# Altium footprint library PcbLib1.PcbLib: 58 footprints (part 1 of 4)
Each footprint in its own frame and in the unit in brackets; x right, y up, seen from the top. Pads: shape width x height; smd on the part's side, far side on the other; paste and mask are expansions set on the pad; w line width, h text height; cw(c..) or ccw(c..) is an arc to the next point about the centre after c.
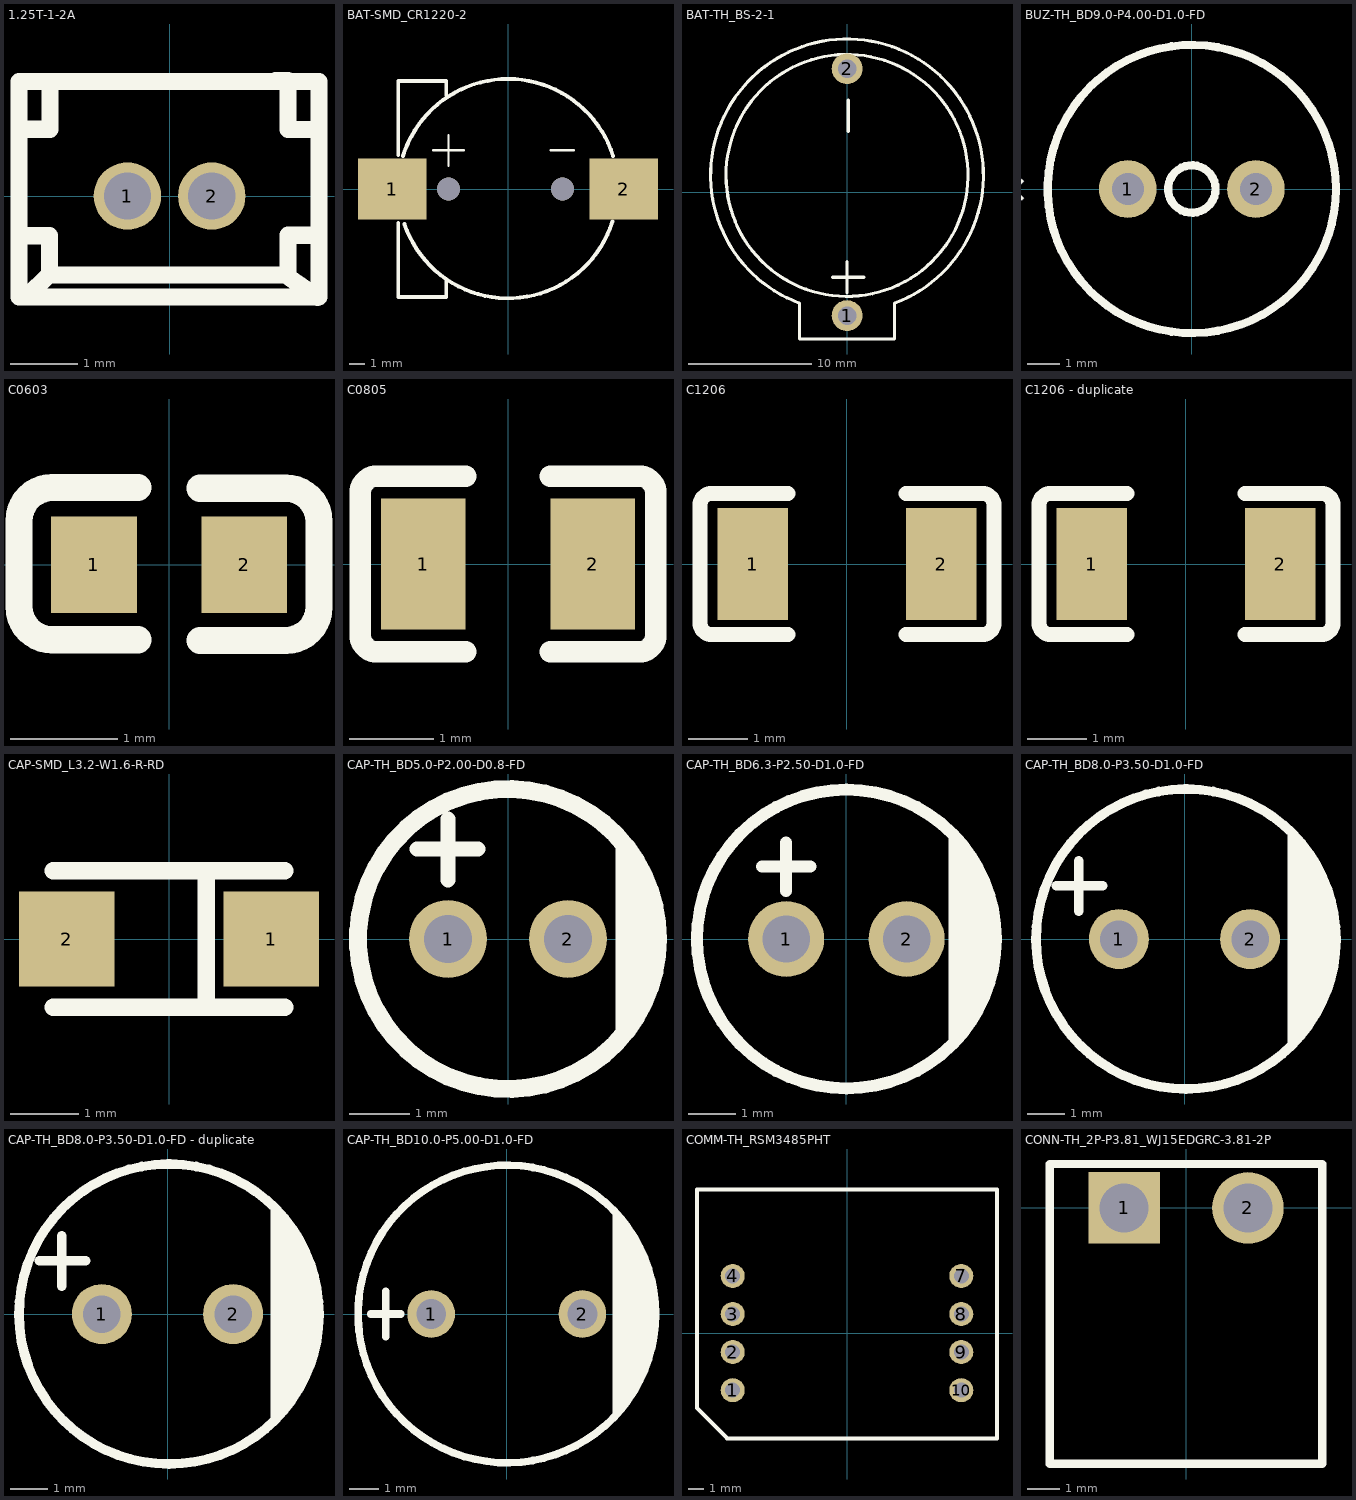
[diagram p0: the footprints below, top view; thin cyan lines are the x and y axes]

## 1.25T-1-2A [mm]
pads (2):
  round 1 hole 0.7: 1(-0.625,0) 2(0.625,0)
Top Overlay:
  lines w0.254: -2.223,-1.48 -2.103,-1.48 -1.793,-1.17 1.715,-1.17 2.195,-1.5 ; -2.223,-0.59 -1.783,-0.59 -1.783,-1.17 ; -2.223,0.99 -1.773,0.99 -1.773,1.7 -1.643,1.7 ; 1.575,1.708 1.755,1.708 1.755,0.988 2.175,0.988 ; 1.756,-1.161 1.756,-0.581 2.196,-0.581 ; -2.233,-1.5 2.215,-1.5 2.215,1.7 -2.233,1.7 -2.233,-1.5

## BAT-SMD_CR1220-2 [mm]
pads (4):
  rect 4.5x4 smd: 1(-7.62,0) 2(7.62,0)
  round 1.5 hole 1.5 unplated: ""(-3.912,0) ""(3.581,0)
Top Overlay:
  lines w0.152: -4.928,2.54 -2.896,2.54 ; -3.912,1.524 -3.912,3.556 ; 2.819,2.54 4.343,2.54
  lines w0.254: -7.22,-2.231 -7.22,-7.112 -4.064,-7.112 -4.064,-5.912 ; -7.22,2.231 -7.22,7.112 -4.064,7.112 -4.064,6.171 ; -6.911,2.175 cw(c0,0) 6.918,2.154 ; -6.815,-2.297 ccw(c0,0) 6.871,-2.124

## BAT-TH_BS-2-1 [mm]
pads (2):
  round 2.5 hole 1.5: 1(0,-10) 2(0,10)
Top Overlay:
  lines w0.254: -3.85,-9.1 -3.85,-11.9 3.85,-11.9 3.85,-9 ccw(c-0.005,1.356) -3.84,-9.007 ; -1.17,-6.9 1.37,-6.9 ; 0,-8.17 0,-5.63 ; 0.1,4.9 0.1,7.44 ; 4.112,-7.541 cw(c-0.005,1.356) 4.2,-7.5

## BUZ-TH_BD9.0-P4.00-D1.0-FD [mm]
pads (2):
  round 1.8 hole 1: 1(-2,0) 2(2,0)
Top Overlay:
  circle w0.254: c0,0 r4.5
  circle w0.254: c0,0 r0.741
  text "+" at -4.865,-0.136 h1

## C0603 [mm]
pads (2):
  rect 0.8x0.9 smd: 1(-0.7,0) 2(0.7,0)
Top Overlay:
  lines w0.254: -0.289,-0.698 -1.089,-0.698 cw(c-1.089,-0.388) -1.399,-0.388 -1.398,0.412 cw(c-1.089,0.412) -1.089,0.722 -0.289,0.722 ; 0.287,-0.704 1.087,-0.704 ccw(c1.087,-0.394) 1.397,-0.394 1.397,0.406 ccw(c1.087,0.406) 1.087,0.716 0.287,0.716

## C0805 [mm]
pads (2):
  rect 1x1.55 smd: 1(-1,0) 2(1,0)
Top Overlay:
  lines w0.254: -1.75,0.82 -1.75,0.8 ; -0.5,-1.04 -1.55,-1.04 cw(c-1.55,-0.84) -1.75,-0.84 -1.75,-0.8 -1.75,0.8 ; -0.5,1.04 -1.55,1.04 ccw(c-1.55,0.84) -1.75,0.84 -1.75,0.8 ; 0.5,-1.04 1.55,-1.04 ccw(c1.55,-0.84) 1.75,-0.84 1.75,-0.8 1.75,0.8 1.75,0.84 ccw(c1.55,0.84) 1.55,1.04 0.5,1.04

## C1206 [mm]
pads (2):
  rect 1.2x1.9 smd: 1(-1.6,0) 2(1.6,0)
Top Overlay:
  lines w0.254: -1,-1.2 -2.2,-1.2 -2.3,-1.2 cw(c-2.3,-1) -2.5,-1 -2.5,1 cw(c-2.3,1) -2.3,1.2 -2.2,1.2 -1,1.2 ; 1,-1.2 2.2,-1.2 2.3,-1.2 ccw(c2.3,-1) 2.5,-1 2.5,1 ccw(c2.3,1) 2.3,1.2 2.2,1.2 1,1.2

## C1206 - duplicate [mm]
pads (2):
  rect 1.2x1.9 smd: 1(-1.6,0) 2(1.6,0)
Top Overlay:
  lines w0.254: -1,-1.2 -2.2,-1.2 -2.3,-1.2 cw(c-2.3,-1) -2.5,-1 -2.5,1 cw(c-2.3,1) -2.3,1.2 -2.2,1.2 -1,1.2 ; 1,-1.2 2.2,-1.2 2.3,-1.2 ccw(c2.3,-1) 2.5,-1 2.5,1 ccw(c2.3,1) 2.3,1.2 2.2,1.2 1,1.2

## CAP-SMD_L3.2-W1.6-R-RD [mm]
pads (2):
  rect 1.4x1.4 smd: 1(1.5,0) 2(-1.5,0)
Top Overlay:
  lines w0.254: -1.7,-1 1.7,-1 ; -1.7,1 1.7,1 ; 0.547,-1 0.547,1

## CAP-TH_BD5.0-P2.00-D0.8-FD [mm]
pads (2):
  round 1.3 hole 0.8: 1(-1,0) 2(1,0)
Top Overlay:
  circle w0.3: c0,0 r2.5
  region: 1.794,1.651 1.961,1.491 2.225,1.111 2.407,0.685 2.5,0.231 2.5,-0.231 2.407,-0.685 2.225,-1.111 1.961,-1.491 1.794,-1.651
  lines w0.254: -1.516,1.5 -0.5,1.5 ; -1,0.984 -1,2

## CAP-TH_BD6.3-P2.50-D1.0-FD [mm]
pads (2):
  round 1.6 hole 1: 1(-1.27,0) 2(1.27,0)
Top Overlay:
  circle w0.254: c0,0 r3.15
  region: 2.159,2.286 2.319,2.142 2.595,1.812 2.822,1.447 2.997,1.054 3.115,0.641 3.175,0.215 3.175,-0.215 3.115,-0.641 2.997,-1.054 2.822,-1.447 2.595,-1.812 2.319,-2.142 2.159,-2.286
  lines w0.254: -1.778,1.524 -0.762,1.524 ; -1.27,1.016 -1.27,2.032

## CAP-TH_BD8.0-P3.50-D1.0-FD [mm]
pads (2):
  round 1.6 hole 1: 1(-1.75,0) 2(1.75,0)
Top Overlay:
  region: 2.75,-3 2.941,-2.8 3.268,-2.355 3.536,-1.872 3.741,-1.359 3.88,-0.824 3.95,-0.276 3.95,0.276 3.88,0.824 3.741,1.359 3.536,1.872 3.268,2.355 2.941,2.8 2.75,3
  lines w0.254: -3.426,1.422 -2.182,1.422 ; -2.817,0.737 -2.817,2.083 ; 0.003,4 ccw(c0.038,0.001) 0.074,4

## CAP-TH_BD8.0-P3.50-D1.0-FD - duplicate [mm]
pads (2):
  round 1.6 hole 1: 1(-1.75,0) 2(1.75,0)
Top Overlay:
  region: 2.75,-3 2.941,-2.8 3.268,-2.355 3.536,-1.872 3.741,-1.359 3.88,-0.824 3.95,-0.276 3.95,0.276 3.88,0.824 3.741,1.359 3.536,1.872 3.268,2.355 2.941,2.8 2.75,3
  lines w0.254: -3.426,1.422 -2.182,1.422 ; -2.817,0.737 -2.817,2.083 ; 0.003,4 ccw(c0.038,0.001) 0.074,4

## CAP-TH_BD10.0-P5.00-D1.0-FD [mm]
pads (2):
  round 1.6 hole 1: 1(-2.54,0) 2(2.54,0)
Top Overlay:
  circle w0.254: c0,0 r4.999
  region: 3.556,3.556 3.556,-3.556 4.318,-2.54 4.826,-1.016 5.08,0.508 4.826,1.524
  lines w0.254: -4.572,0 -3.556,0 ; -4.064,-0.762 -4.064,0.762

## COMM-TH_RSM3485PHT [mm]
pads (8):
  round 1.6 hole 1: 1(-7.62,-3.81) 2(-7.62,-1.27) 3(-7.62,1.27) 4(-7.62,3.81) 7(7.62,3.81) 8(7.62,1.27) 9(7.62,-1.27) 10(7.62,-3.81)
Top Overlay:
  lines w0.254: -10,-4.987 -8,-6.987 -8,-7.03 10,-7.03 ; -10,-4.93 -10,9.57 10,9.57 10,-6.97

## CONN-TH_2P-P3.81_WJ15EDGRC-3.81-2P [mm]
pads (2):
  rect 2.2x2.2 hole 1.5: 1(-1.905,0)
  round 2.2 hole 1.5: 2(1.905,0)
Top Overlay:
  lines w0.254: -4.191,-7.88 -4.191,1.27 ; -4.191,-7.874 4.191,-7.874 4.191,1.27 ; -4.191,1.35 4.191,1.35